# Altium footprint library NX5032GA.PcbLib: 1 footprints
Each footprint in its own frame and in the unit in brackets; x right, y up, seen from the top. Pads: shape width x height; smd on the part's side, far side on the other; paste and mask are expansions set on the pad; w line width, h text height; cw(c..) or ccw(c..) is an arc to the next point about the centre after c.
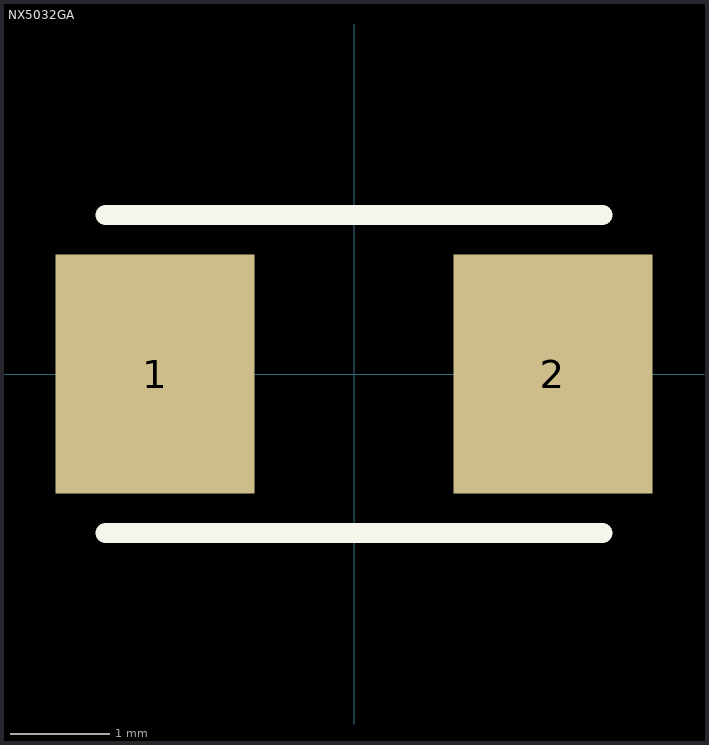
[diagram p0: the footprint, top view; thin cyan lines are the x and y axes]

## NX5032GA [mm] "NDK SMD crystal"
pads (2):
  rect 2x2.4 smd: 1(-2,0) 2(2,0)
Top Overlay:
  lines w0.2: -2.5,-1.6 2.5,-1.6 ; -2.5,1.6 2.5,1.6
3D body: height 1.3, standoff 0, extent -2.5,-1.6 2.5,1.6